# EAGLE library part TEENSY-4 (library foo)
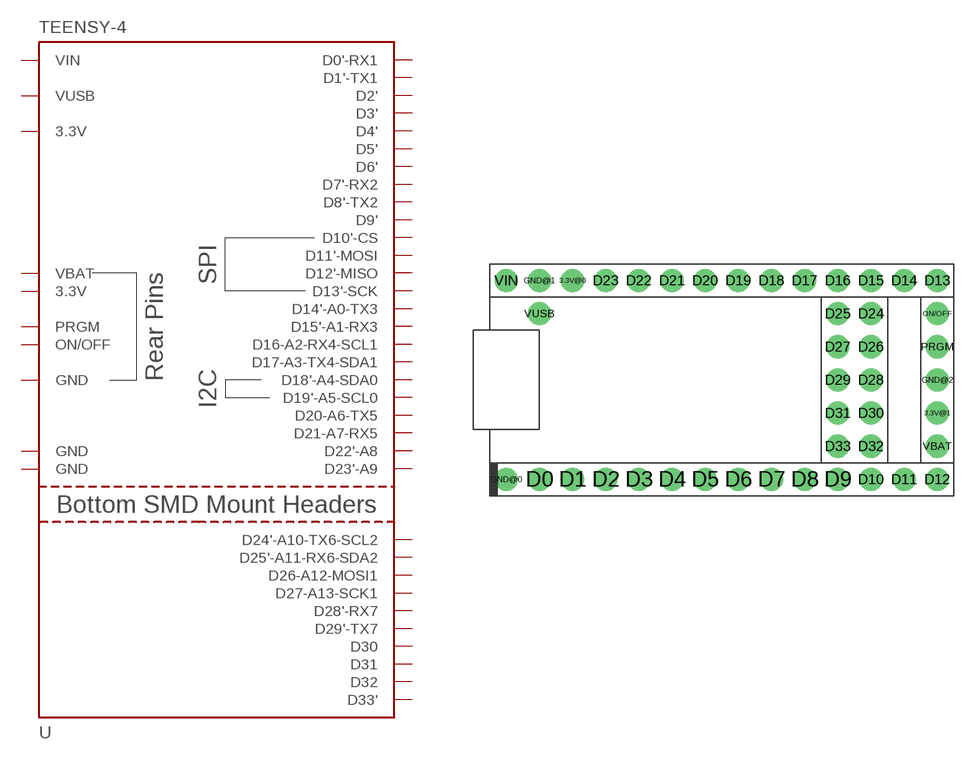
[diagram p7: symbol with the pads of TEENSY-4; footprint TEENSY-4]

Designator prefix U

## TEENSY-4  [TEENSY-4]
3.3V@0  3.3V  pwr
3.3V@1  3.3V  pwr
D0  D0'-RX1
D1  D1'-TX1
D2  D2'
D3  D3'
D4  D4'
D5  D5'
D6  D6'
D7  D7'-RX2
D8  D8'-TX2
D9  D9'
D10  D10'-CS
D11  D11'-MOSI
D12  D12'-MISO
D13  D13'-SCK
D14  D14'-A0-TX3
D15  D15'-A1-RX3
D16  D16-A2-RX4-SCL1
D17  D17-A3-TX4-SDA1
D18  D18'-A4-SDA0
D19  D19'-A5-SCL0
D20  D20-A6-TX5
D21  D21-A7-RX5
D22  D22'-A8
D23  D23'-A9
D24  D24'-A10-TX6-SCL2
D25  D25'-A11-RX6-SDA2
D26  D26-A12-MOSI1
D27  D27-A13-SCK1
D28  D28'-RX7
D29  D29'-TX7
D30  D30
D31  D31
D32  D32
D33  D33'
GND@0  GND  pwr
GND@1  GND  pwr
GND@2  GND  pwr
ON/OFF  ON/OFF  in
PRGM  PRGM  in
VBAT  VBAT  pwr
VIN  VIN  pwr
VUSB  VUSB  pwr

## Footprint TEENSY-4 (pad centres in mm)
drill 1.016 pad 1.778: 3.3V@0 -11.43,7.62; 3.3V@1 16.51,-2.54; D0 -13.97,-7.62; D1 -11.43,-7.62; D2 -8.89,-7.62; D3 -6.35,-7.62; D4 -3.81,-7.62; D5 -1.27,-7.62; D6 1.27,-7.62; D7 3.81,-7.62; D8 6.35,-7.62; D9 8.89,-7.62; D10 11.43,-7.62; D11 13.97,-7.62; D12 16.51,-7.62; D13 16.51,7.62; D14 13.97,7.62; D15 11.43,7.62; D16 8.89,7.62; D17 6.35,7.62; D18 3.81,7.62; D19 1.27,7.62; D20 -1.27,7.62; D21 -3.81,7.62; D22 -6.35,7.62; D23 -8.89,7.62; D24 11.43,5.08; D25 8.89,5.08; D26 11.43,2.54; D27 8.89,2.54; D28 11.43,0; D29 8.89,0; D30 11.43,-2.54; D31 8.89,-2.54; D32 11.43,-5.08; D33 8.89,-5.08; GND@0 -16.51,-7.62; GND@1 -13.97,7.62; GND@2 16.51,0; ON/OFF 16.51,5.08; PRGM 16.51,2.54; VBAT 16.51,-5.08; VIN -16.51,7.62; VUSB -13.97,5.08